# Altium integrated library Resistors.IntLib: 255 symbols (part 3 of 3)
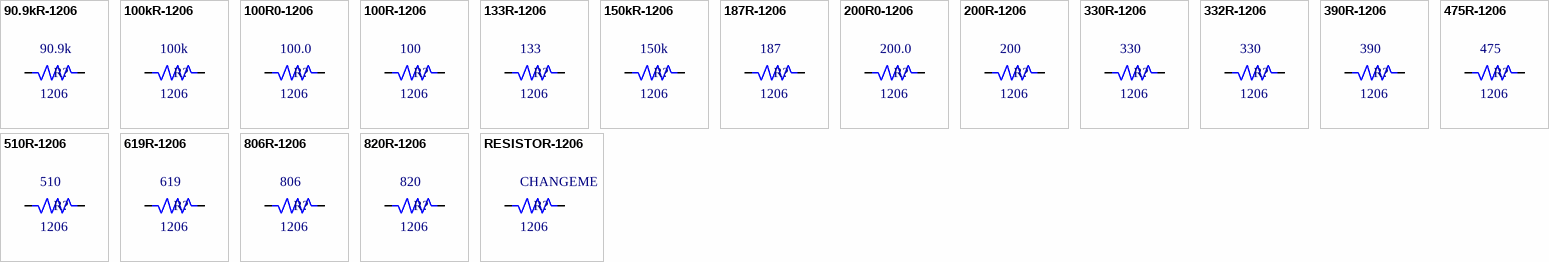
[diagram p12: symbols 90.9kR-1206 to RESISTOR-1206]

## 390R-1206
designator R?  value 390  Package Reference: 1206
390R, 1206 SMT resistor, 1/4W, 5%; Part Number: ERJ-8GEYJ391V; PackageDescription: Chip Resistor 1206; Supplier 1: Newark; Supplier 2: Digi-Key; Supplier 3: Mouser; Supplier Part Number 1: 65T8937; Supplier Part Number 2: P390ECT-ND; Supplier Part Number 3: 667-ERJ-8GEYJ391V
simulation model RESISTOR (Resistor)
signal-integrity model Res
footprint R1206 (Chip Resistor, Body 3.2x1.6mm, IPC Medium Density)
3D model 1206-Res (PCB3D Model)
pins: 1, 2

## 475R-1206
designator R?, comment value 475  Package Reference: 1206  (hidden comment: ERJ-8ENF4750V)
475R, 1206 SMT resistor, 1/4W, 1%; PackageDescription: Chip Resistor 1206; Supplier 1: Newark; Supplier 2: Digi-Key; Supplier 3: Mouser; Supplier Part Number 1: 65T8874; Supplier Part Number 2: P475FCT-ND; Supplier Part Number 3: 667-ERJ-8ENF4750V
simulation model RESISTOR (Resistor)
signal-integrity model Res
footprint R1206 (Chip Resistor, Body 3.2x1.6mm, IPC Medium Density)
3D model 1206-Res (PCB3D Model)
pins: 1, 2

## 510R-1206
designator R?, comment value 510  Package Reference: 1206  (hidden comment: ERJ-8ENF5100V)
510, 1206 SMT resistor, 1/4W, 1%; PackageDescription: Chip Resistor 1206; Supplier 1: Mouser; Supplier 2: Digi-Key; Supplier 3: Newark; Supplier Part Number 1: 667-ERJ-8ENF5100V; Supplier Part Number 2: P510FCT-ND; Supplier Part Number 3: 53W4994
simulation model RESISTOR (Resistor)
signal-integrity model Res
footprint R1206 (Chip Resistor, Body 3.2x1.6mm, IPC Medium Density)
3D model 1206-Res (PCB3D Model)
pins: 1, 2

## 619R-1206
designator R?, comment value 619  Package Reference: 1206  (hidden comment: ERJ-8ENF6190V)
619R, 1206 SMT resistor, 1/4W, 1%; PackageDescription: Chip Resistor 1206; Supplier 1: Digi-Key; Supplier 2: Mouser; Supplier 3: Newark; Supplier Part Number 1: P619FCT-ND; Supplier Part Number 2: 667-ERJ-8ENF6190V; Supplier Part Number 3: 90W3966
simulation model RESISTOR (Resistor)
signal-integrity model Res
footprint R1206 (Chip Resistor, Body 3.2x1.6mm, IPC Medium Density)
3D model 1206-Res (PCB3D Model)
pins: 1, 2

## 806R-1206
designator R?, comment value 806  Package Reference: 1206  (hidden comment: ERJ-8ENF8060V)
806R, 1206 SMT resistor, 1/4W, 1%; PackageDescription: Chip Resistor 1206; Supplier 1: Digi-Key; Supplier 2: Newark; Supplier 3: Mouser; Supplier Part Number 1: P806FCT-ND; Supplier Part Number 2: 90W4023; Supplier Part Number 3: 667-ERJ-8ENF8060V
simulation model RESISTOR (Resistor)
signal-integrity model Res
footprint R1206 (Chip Resistor, Body 3.2x1.6mm, IPC Medium Density)
3D model 1206-Res (PCB3D Model)
pins: 1, 2

## 820R-1206
designator R?, comment value 820  Package Reference: 1206  (hidden comment: ERJ-8GEYJ821V)
820R, 1206 SMT resistor, 1/4W, 5%; PackageDescription: Chip Resistor 1206; Supplier 1: Digi-Key; Supplier 2: Newark; Supplier 3: Mouser; Supplier Part Number 1: P820ECT-ND; Supplier Part Number 2: 65T8963; Supplier Part Number 3: 667-ERJ-8GEYJ821V
simulation model RESISTOR (Resistor)
signal-integrity model Res
footprint R1206 (Chip Resistor, Body 3.2x1.6mm, IPC Medium Density)
3D model 1206-Res (PCB3D Model)
pins: 1, 2

## RESISTOR-1206
designator R?, comment value CHANGEME  Package Reference: 1206  (hidden comment: Generic Resistor, 1206)
Generic, 1206 SMT resistor, 1/4W, x%; PackageDescription: Chip Resistor 1206
simulation model RESISTOR (Resistor)
signal-integrity model Res
footprint R1206 (Chip Resistor, Body 3.2x1.6mm, IPC Medium Density)
3D model 1206-Res (PCB3D Model)
pins: 1, 2


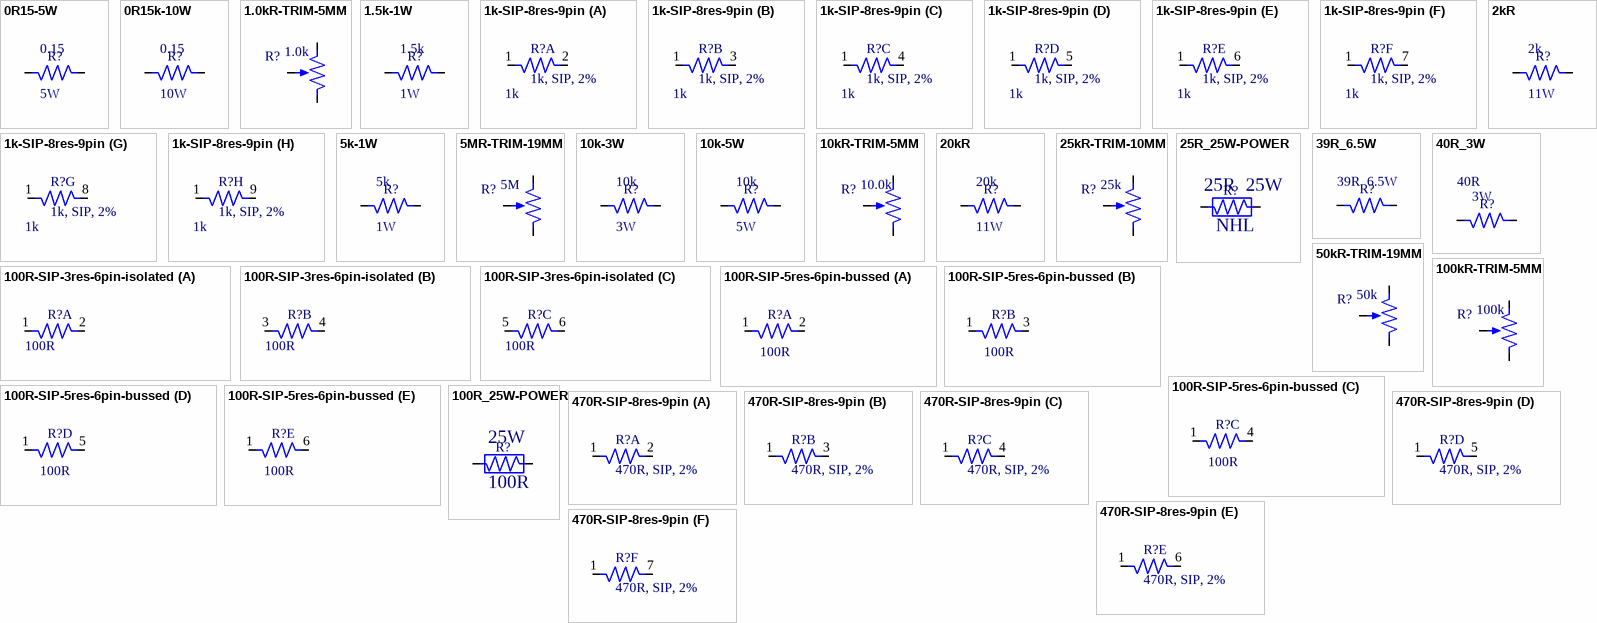
[diagram p7: symbols 0R15-5W to 470R-SIP-8res-9pin]

## 0R15-5W
designator R?, comment value 0.15  Power Rating: 5W  (hidden comment: 15FR150E)
Resistor, 0.15R, Thru-hole resistor, 5W, 5%; Manufacturer: Ohmite; PackageDescription: Resistor, Axial; Part Number: 15FR150E; Type: *; Supplier 1: Mouser; Supplier Part Number 1: 588-15FR150E; Supplier 2: Newark; Supplier Part Number 2: 64K7927; Supplier 3: Allied; Supplier Part Number 3: 70024363; Supplier 4: Digi-Key; Supplier Part Number 4: 15FR150E-ND; Adjustment Type: N/A; Number of Turns: N/A; Package Reference: Thru-Hole; Set Position: N/A
footprint AXIAL-1.3 (Axial Device, Thru-Hole; 2 Leads; 1.2 in Pin Spacing)
simulation model RES (Default semiconductor resistor)
pins: 1, 2

## 0R15k-10W
designator R?, comment value 0.15  Power Rating: 10W  (hidden comment: RS010R1500FE73)
Resistor, 0.15R, Thru-hole resistor, 10W, 1%; Manufacturer: Vishay Dale; PackageDescription: Resistor, Axial; Part Number: RS010R1500FE73; Type: *; Supplier 1: Mouser; Supplier Part Number 1: N/A; Supplier 2: Digi-Key; Supplier Part Number 2: RSD-.15RCT-ND; Adjustment Type: N/A; Number of Turns: N/A; Package Reference: Thru-Hole; Set Position: N/A
footprint AXIAL-1.3 (Axial Device, Thru-Hole; 2 Leads; 1.2 in Pin Spacing)
simulation model RES (Default semiconductor resistor)
pins: 1, 2

## 1.0kR-TRIM-5MM
designator R?, comment value 1.0k  (hidden comment: 3296W-1-102LF)
Trimmer Potentiometer, 1k, 25turn, PCB mount; Manufacturer: Vishay Sfernice; Adjustment Type: Top Adjustment; Number of Turns: 25; Power Rating: 0.5W (1./2W); Set Position: .5; PackageDescription: Rectangular - 0.375" x 0.190" Face x 0.395" H (9.53mm x 4.83mm x 10.03mm); Supplier 1: Mouser; Supplier Part Number 1: 72-T93YB-10K; Supplier 2: Digi-Key; Supplier Part Number 2: T93YB-10K-ND; Supplier 3: Newark; Supplier Part Number 3: 26M4641; Part Number: 3296W-1-102LF; Package Reference: POT-9.7mm-X-5mm
simulation model POT (Trimmer Potentiometer)
footprint POT-9.53MM-X-4.83MM (Bournes Rectangular - 0.375" x 0.190" Face x 0.395" H (9.53mm x 4.83mm x 10.03mm) Potientiometer package)
3D model POT-BOURNES-3296 (PCB3D Model)
pins: 1, 2, 3

## 1.5k-1W
designator R?, comment value 1.5k  Power Rating: 1W  (hidden comment: FMP100JR-52-1K5)
Resistor, 1.5kR, Thru-hole resistor, 1W, 5%; Manufacturer: Yageo; PackageDescription: Resistor, Axial; Part Number: FMP100JR-52-1K5; Type: *; Supplier 1: Digi-Key; Supplier Part Number 1: 1.5KWCT-ND; Supplier 2: Mouser; Supplier Part Number 2: 603-FMP100JR-52-1K5; Adjustment Type: N/A; Number of Turns: N/A; Package Reference: Thru-Hole; Set Position: N/A
footprint AXIAL-0.5 (Axial Device, Thru-Hole; 2 Leads; 0.5 in Pin Spacing)
simulation model RES (Default semiconductor resistor)
pins: 1, 2

## 1k-SIP-8res-9pin
designator R?, comment 1k, SIP, 2%  value 1k
Resistor SIP, 1k, thick film, bussed, 8res, 9pin; Manufacturer: Bourns; Power Rating: 200mW; Supplier 1: Newark; Supplier Part Number 1: 32K9075; Supplier 2: Mouser; Supplier Part Number 2: 652-4309R-1LF-1K; Supplier 3: Digi-Key; Supplier Part Number 3: 4309R-101-102LF-ND; PackageDescription: Through Hole Resistor Network; Type: 4300 Series; Adjustment Type: N/A; Number of Turns: N/A; Set Position: N/A
footprint SIP-9-bussed (8res, 9pin, SIP, bussed)
part A pins: 1 COM, 2
part B pins: 1 COM, 3
part C pins: 1 COM, 4
part D pins: 1 COM, 5
part E pins: 1 COM, 6
part F pins: 1 COM, 7
part G pins: 1 COM, 8
part H pins: 1 COM, 9

## 2kR
designator R?, comment value 2k  Power Rating: 11W  (hidden comment: 2k 11W)
Resistor, 2kR, 90 Series, Thru-hole resistor, 11W, 5%; Part Number: 90J2K0E; Manufacturer: OHMITE; PackageDescription: Resistor, Axial; Type: *; Supplier 1: Allied; Supplier Part Number 1: 70023464; Supplier 2: Mouser; Supplier Part Number 2: 588-90J2K0E; Supplier 3: Newark; Supplier Part Number 3: 14P3775; Adjustment Type: N/A; Number of Turns: N/A; Package Reference: Thru-Hole; Set Position: N/A
footprint 90Series-11W (90 Series Power Resistor 11W, 1080V)
simulation model RES (Default semiconductor resistor)
pins: 1, 2

## 5k-1W
designator R?, comment value 5k  Power Rating: 1W  (hidden comment: ALSR015K000JE12)
Resistor, 5kR, Thru-hole resistor, 1W, 5%; Manufacturer: Vishay Dale; PackageDescription: Resistor, Axial; Part Number: ALSR015K000JE12; Type: *; Supplier 1: Digi-Key; Supplier Part Number 1: ALSR1J-5.0K-ND; Supplier 2: Newark; Supplier Part Number 2: 25Y0457; Adjustment Type: N/A; Number of Turns: N/A; Package Reference: Thru-Hole; Set Position: N/A
footprint AXIAL-0.5 (Axial Device, Thru-Hole; 2 Leads; 0.5 in Pin Spacing)
simulation model RES (Default semiconductor resistor)
pins: 1, 2

## 5MR-TRIM-19MM
designator R?, comment value 5M  (hidden comment: 3006P-1-505LF)
Trimmer Potentiometer, 5M, 15t, rectangular, panel mount, thru-hole; Manufacturer: Bourns; Adjustment Type: Side Adjustment; Number of Turns: 15; Power Rating: 0.5W (1./2W); PackageDescription: Potentiometer, Rectangular - 19.08mml x 4.83mmw x 6.35mmh; Set Position: N/A; Mounting: Panel; Supplier 1: Newark; Supplier Part Number 1: 06X8798; Part Number: 3006P-1-505LF; Package Reference: POT-19mm-X-4.8mm
footprint POT-19MM-X-4.8MM
simulation model RES (Default semiconductor resistor)
pins: 1, 2, 3

## 10k-3W
designator R?, comment value 10k  Power Rating: 3W  (hidden comment: RS02B10K00FE70)
Resistor, 10kR, Thru-hole resistor, 3W, 5%; Manufacturer: Vishay Dale; PackageDescription: Resistor, Axial; Part Number: RS02B10K00FE70; Type: *; Supplier 1: Newark; Supplier Part Number 1: 52P3409; Supplier 2: Digi-Key; Supplier Part Number 2: RSB-10KRCT-ND; Supplier 3: Mouser; Supplier Part Number 3: 71-RS02B10K00FE70; Adjustment Type: N/A; Number of Turns: N/A; Package Reference: Thru-Hole; Set Position: N/A
footprint AXIAL-0.7 (Axial Device, Thru-Hole; 2 Leads; 0.7 in Pin Spacing)
simulation model RES (Default semiconductor resistor)
pins: 1, 2

## 10k-5W
designator R?, comment value 10k  Power Rating: 5W  (hidden comment: RS00510K00FE73)
Resistor, 10kR, Thru-hole resistor, 5W, 5%; Manufacturer: Vishay Dale; PackageDescription: Resistor, Axial; Part Number: RS00510K00FE73; Type: *; Supplier 1: Digi-Key; Supplier Part Number 1: RSC-10KRCT-ND; Supplier 2: Mouser; Supplier Part Number 2: N/A; Supplier 3: Newark; Supplier Part Number 3: 54M3473; Adjustment Type: N/A; Number of Turns: N/A; Package Reference: Thru-Hole; Set Position: N/A
footprint AXIAL-0.7 (Axial Device, Thru-Hole; 2 Leads; 0.7 in Pin Spacing)
simulation model RES (Default semiconductor resistor)
pins: 1, 2

## 10kR-TRIM-5MM
designator R?, comment value 10.0k  (hidden comment: T93YB103KT20)
Trimmer Potentiometer, 1k, 21turn, PCB mount; Manufacturer: Vishay Sfernice; Adjustment Type: Top Adjustment; Number of Turns: 21; Power Rating: 0.5W (1./2W); Set Position: .5; PackageDescription: Potentiometer, Rectangular - 0.382" x 0.197" Face x 0.386" H (9.70mm x 5.00mm x 9.80mm); Part Number: T93YB103KT20; Package Reference: POT-9.7mm-X-5mm; Supplier 1: Allied; Supplier Part Number 1: 70218951; Supplier 2: Digi-Key; Supplier Part Number 2: T93YB-10K-ND; Supplier 3: Newark; Supplier Part Number 3: 26M4641; Supplier 4: TME; Supplier Part Number 4: T93YB10K
simulation model POT (Trimmer Potentiometer)
footprint POT-9.7mm-X-5mm (Potentiometer, Rectangular - 0.382" x 0.197" Face x 0.386" H (9.70mm x 5.00mm x 9.80mm))
3D model POT-BOURNES-3296 (PCB3D Model)
pins: 1, 2, 3

## 20kR
designator R?, comment value 20k  Power Rating: 11W  (hidden comment: 90J20KE)
Resistor, 20kR, 90 Series, Thru-hole resistor, 11W, 5%; Manufacturer: OHMITE; PackageDescription: Resistor, Axial; Part Number: 90J20KE; Type: *; Supplier 1: Newark; Supplier Part Number 1: 65K0135; Supplier 2: Mouser; Supplier Part Number 2: 588-90J20KE; Adjustment Type: N/A; Number of Turns: N/A; Package Reference: Thru-Hole; Set Position: N/A
footprint 90Series-11W (90 Series Power Resistor 11W, 1080V)
simulation model RES (Default semiconductor resistor)
pins: 1, 2

## 25kR-TRIM-10MM
designator R?, comment value 25k  (hidden comment: 3386P-1-253LF)
Trimmer Potentiometer, 25k, 1turn, 0.5W, 10%, PC Pin; Manufacturer: Bourns; Adjustment Type: Top Adjustment; Number of Turns: 1; PackageDescription: Potentiometer, Rectangular; Power Rating: 0.5W; Supplier 1: Mouser; Supplier Part Number 1: 652-3386P-1-253LF; Supplier 2: Digi-Key; Supplier Part Number 2: 3386P-253LF-ND; Supplier 3: Newark; Supplier Part Number 3: 62J2274; Set Position: N/A; Part Number: 3386P-1-253LF; Package Reference: POT-9.5mm-X-9.5mm
footprint POT-9.5mm-X-9.5mm (Potentiometer, Rectangular - 0.375" x 0.375" x 0.190" H (9.53mm x 9.53mm x 4.83mm))
simulation model RES (Potentiometer model)
pins: 1, 2, 3

## 25R_25W-POWER
designator R?, comment value 25R  Power Rating: 25W  Type: NHL  (hidden comment: NHL02506E25R00JE)
25R, NHL Power Thru-hole resistor, 25W, 5%, Dale; Manufacturer: Vishay; PackageDescription: Non-inductive Power Resistor; Part Number: NHL02506E25R00JE; Supplier 1: Newark; Supplier Part Number 1: 64P7421; Supplier 2: Mouser; Supplier Part Number 2: N/A; Adjustment Type: N/A; Number of Turns: N/A; Package Reference: Screw Mount; Set Position: N/A
footprint NHL-25-06E (Resistor, Non-Inductive, 25W)
simulation model RES (Default semiconductor resistor)
pins: 1, 2

## 39R_6.5W
designator R?, comment value 39R  Power Rating: 6.5W  (hidden comment: CW00539R00JE73)
39R, CW Series, Thru-hole resistor, 6.5W, 5%; PackageDescription: Resistor, Axial; Part Number: CW00539R00JE73; Supplier 1: Digi-Key; Supplier Part Number 1: CWD-39RCT-ND; Type: CW; Supplier 2: Newark; Supplier Part Number 2: 73Y7286; Supplier 3: Mouser; Supplier Part Number 3: 71-CW00539R00JE73HE; Adjustment Type: N/A; Number of Turns: N/A; Package Reference: Thru-Hole; Set Position: N/A
footprint AXIAL-1.3 (Axial Device, Thru-Hole; 2 Leads; 1.2 in Pin Spacing)
simulation model RES (Default semiconductor resistor)
pins: 1, 2

## 40R_3W
designator R?, comment value 40R  Power Rating: 3W  (hidden comment: 23J40RE)
40R, UB Series, Thru-hole resistor, 3W, 1%; Manufacturer: Ohmite; PackageDescription: Resistor, Axial; Type: UB; Supplier 1: Digi-Key; Supplier Part Number 1: 696-1038-ND; Part Number: 23J40RE; Supplier 2: Mouser; Supplier Part Number 2: 588-23J40RE; Supplier 3: Newark; Supplier Part Number 3: 64K8217; Adjustment Type: N/A; Number of Turns: N/A; Package Reference: Thru-Hole; Set Position: N/A
footprint AXIAL-0.8 (Axial Device, Thru-Hole; 2 Leads; 0.8 in Pin Spacing)
simulation model RES (Default semiconductor resistor)
pins: 1, 2

## 50kR-TRIM-19MM
designator R?, comment value 50k  (hidden comment: 3006P-1-503LF)
Trimmer Potentiometer, 50k, 15t, rectangular, panel mount, thru-hole; Manufacturer: Bourns; Adjustment Type: Side Adjustment; Number of Turns: 15; Power Rating: 0.5W (1./2W); PackageDescription: Potentiometer, Rectangular - 19.08mml x 4.83mmw x 6.35mmh; Set Position: N/A; Mounting: Panel; Supplier 1: TME; Supplier Part Number 1: 3006P-1-503LF; Supplier 2: Newark; Supplier Part Number 2: 39K1910; Supplier 3: Mouser; Supplier Part Number 3: 652-3006P-1-503-LF; Supplier 4: Digi-Key; Supplier Part Number 4: 3006P-503LF-ND; Part Number: 3006P-1-503LF; Package Reference: POT-19mm-X-4.8mm
footprint POT-19MM-X-4.8MM
simulation model POT (Trimmer Pot Sim)
pins: 1, 2, 3

## 100kR-TRIM-5MM
designator R?, comment value 100k  (hidden comment: 3296W-1-104LF)
Trimmer Potentiometer, 100k, 25turn, PCB mount; Manufacturer: Vishay Sfernice; Adjustment Type: Top Adjustment; Number of Turns: 25; Power Rating: 0.5W (1./2W); Set Position: .5; PackageDescription: Rectangular - 0.375" x 0.190" Face x 0.395" H (9.53mm x 4.83mm x 10.03mm); Part Number: 3296W-1-104LF; Package Reference: POT-9.7mm-X-5mm; Supplier 1: Allied; Supplier Part Number 1: 70153919; Supplier 2: TME; Supplier Part Number 2: 3296W-1-104LF; Supplier 3: Digi-Key; Supplier Part Number 3: 3296W-104LF-ND
simulation model POT (Trimmer Potentiometer)
footprint POT-9.53MM-X-4.83MM (Bournes Rectangular - 0.375" x 0.190" Face x 0.395" H (9.53mm x 4.83mm x 10.03mm) Potientiometer package)
3D model POT-BOURNES-3296 (PCB3D Model)
pins: 1, 2, 3

## 100R-SIP-3res-6pin-isolated
designator R?, comment value 100R  (hidden comment: 4606X-102-101LF)
Resistor SIP, 100R, thick film, isolated, 3res, 6pin; Manufacturer: Bourns; Power Rating: 300mW; PackageDescription: Through Hole Resistor Network; Type: 4600 Series; Supplier 1: Newark; Supplier Part Number 1: 62J2831; Supplier 2: Mouser; Supplier Part Number 2: 652-4606X-2LF-100; Supplier 3: Digi-Key; Supplier Part Number 3: 4606X-2-101LF-ND; Part Number: 4606X-102-101LF; Adjustment Type: N/A; Number of Turns: N/A; Package Reference: 6-SIP; Set Position: N/A
footprint SIP-6 (5res, 6pin, SIP, bussed)
part A pins: 1 COM, 2
part B pins: 3, 4
part C pins: 5, 6

## 100R-SIP-5res-6pin-bussed
designator R?, comment value 100R  (hidden comment: 4606X-101-101LF)
Resistor SIP, 100R, thick film, bussed, 5res, 6pin; Manufacturer: Bourns; Power Rating: 200mW; PackageDescription: Through Hole Resistor Network; Type: 4600 Series; Supplier 1: Newark; Supplier Part Number 1: 62J2818; Supplier 2: Digi-Key; Supplier Part Number 2: 4606X-1-101LF-ND; Part Number: 4606X-101-101LF; Supplier 3: Mouser; Supplier Part Number 3: 652-4606X-1LF-100; Supplier 4: Allied; Supplier Part Number 4: 70154936; Adjustment Type: N/A; Number of Turns: N/A; Set Position: N/A
footprint SIP-6 (5res, 6pin, SIP, bussed)
part A pins: 1 COM, 2
part B pins: 1 COM, 3
part C pins: 1 COM, 4
part D pins: 1 COM, 5
part E pins: 1 COM, 6

## 100R_25W-POWER
designator R?, comment value 100R  Power Rating: 25W  (hidden comment: L100J100E)
100R, NHL Power Thru-hole resistor, 25W, 5%, Ohmite; PackageDescription: Non-inductive Power Resistor; Manufacturer: Ohmite; Part Number: L100J100E; Type: NHL; Supplier 1: Mouser; Supplier Part Number 1: 588-L100J100E; Supplier 2: Allied; Supplier Part Number 2: 70022721; Supplier 3: Digi-Key; Supplier Part Number 3: L100J100E-ND; Adjustment Type: N/A; Number of Turns: N/A; Package Reference: Screw Mount; Set Position: N/A
footprint NHL-25-06E (Resistor, Non-Inductive, 25W)
simulation model RES (Default semiconductor resistor)
pins: 1, 2

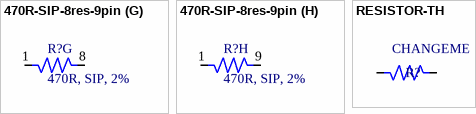
[diagram p8: symbols 470R-SIP-8res-9pin to RESISTOR-TH]

## 470R-SIP-8res-9pin
designator R?, comment 470R, SIP, 2%
Resistor SIP, 470R, thick film, bussed, 8res, 9pin; Manufacturer: Bourns; Power Rating: 200mW; Supplier 1: Mouser; Supplier Part Number 1: 652-4309R-1LF-1K; PackageDescription: Through Hole Resistor Network; Type: 4300 Series; Adjustment Type: N/A; Number of Turns: N/A; Set Position: N/A; Supplier 2: Newark; Supplier Part Number 2: 62J2920; Supplier 3: Digi-Key; Supplier Part Number 3: 4609X-101-471LF-ND; Value: 470R
footprint SIP-9-bussed (8res, 9pin, SIP, bussed)
part A pins: 1 COM, 2
part B pins: 1 COM, 3
part C pins: 1 COM, 4
part D pins: 1 COM, 5
part E pins: 1 COM, 6
part F pins: 1 COM, 7
part G pins: 1 COM, 8
part H pins: 1 COM, 9

## RESISTOR-TH
designator R?, comment value CHANGEME  (hidden comment: Generic Resistor, 2512)
Generic, Through Hole resistor, 3/4W, x%; PackageDescription: Axial-0.x; Power Rating: *; Adjustment Type: N/A; Number of Turns: N/A; Package Reference: TH Axial-0.x; Set Position: N/A
simulation model RESISTOR (Resistor)
signal-integrity model Res
footprint AXIAL-0.3 (Axial Device, Thru-Hole; 2 Leads; 0.3 in Pin Spacing)
pins: 1, 2


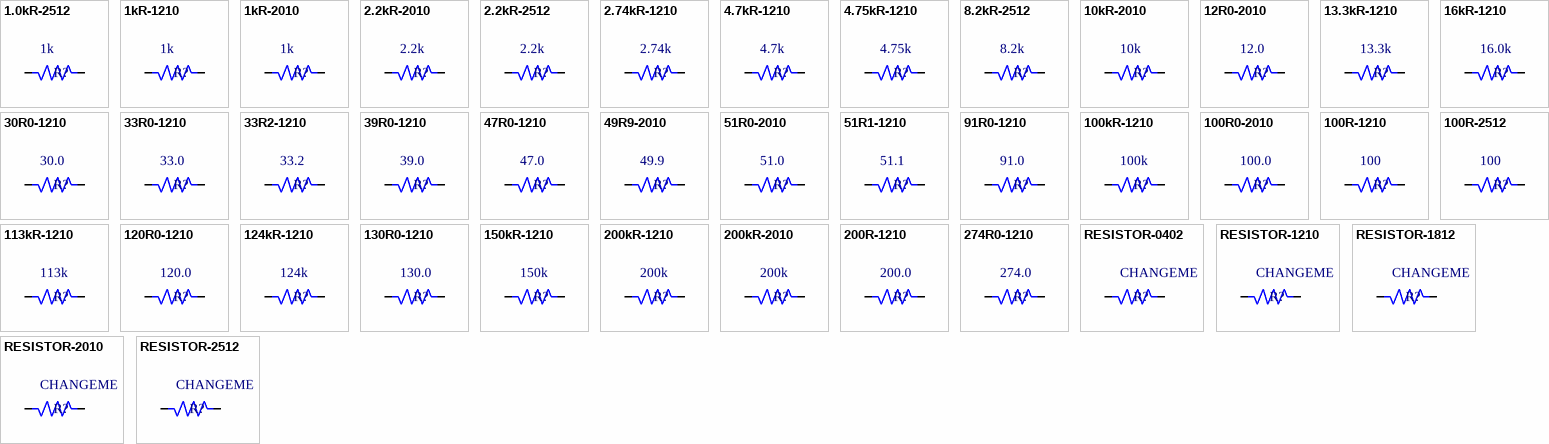
[diagram p9: symbols 1.0kR-2512 to RESISTOR-2512]

## 1.0kR-2512
designator R?, comment value 1k  (hidden comment: 1k, 2512)
1k, 2512 SMT resistor, 1W, 1%; PackageDescription: Chip Resistor 2512; Supplier 1: Newark; Supplier 2: Mouser; Supplier 3: Digi-Key; Supplier Part Number 1: 51W5952; Supplier Part Number 2: 667-ERJ-1TNF1001U; Supplier Part Number 3: PT1.00KAFCT-ND; Package Reference: 2512
simulation model RESISTOR (Resistor)
signal-integrity model Res
footprint R2512 (Chip Resistor, Body 2.54x1.27mm, IPC Medium Density)
3D model 2512-Res (PCB3D Model)
pins: 1, 2

## 1kR-1210
designator R?, comment value 1k  (hidden comment: 1k, 1210)
1k, 1210 SMT resistor, 1/2W, 1%; PackageDescription: Chip Resistor 1210; Supplier 1: Digi-Key; Supplier 2: Newark; Supplier 3: Mouser; Supplier Part Number 1: P1.00KAACT-ND; Supplier Part Number 2: 53W4092; Supplier Part Number 3: 667-ERJ-14NF1001U; Package Reference: 1210
simulation model RESISTOR (Resistor)
signal-integrity model Res
footprint R1210 (Chip Resistor, Body 3.2x2.5mm, IPC Medium Density)
3D model 1210-Res (PCB3D Model)
pins: 1, 2

## 1kR-2010
designator R?, comment value 1k  (hidden comment: 1k, 2010)
1k, 2010 SMT resistor, 1/2W, 5%; PackageDescription: Chip Resistor 2010; Supplier 1: Mouser; Supplier 2: Newark; Supplier 3: Digi-Key; Supplier Part Number 1: 667-ERJ-12ZYJ102U; Supplier Part Number 2: 53W4083; Supplier Part Number 3: P1.0KWCT-ND; Package Reference: 2010
simulation model RESISTOR (Resistor)
signal-integrity model Res
footprint R2010 (Chip Resistor, Body 5.0x2.5mm, IPC Medium Density)
3D model 2010-Res (PCB3D Model)
pins: 1, 2

## 2.2kR-2010
designator R?, comment value 2.2k  (hidden comment: 2.2k, 2010)
2.2k, 2010 SMT resistor, 1/2W, 5%; PackageDescription: Chip Resistor 2010; Supplier 1: Mouser; Supplier 2: Digi-Key; Supplier 3: Newark; Supplier Part Number 1: 667-ERJ-12ZYJ222U; Supplier Part Number 2: P2.2KWCT-ND; Supplier Part Number 3: 53W4088; Package Reference: 2010
simulation model RESISTOR (Resistor)
signal-integrity model Res
footprint R2010 (Chip Resistor, Body 5.0x2.5mm, IPC Medium Density)
3D model 2010-Res (PCB3D Model)
pins: 1, 2

## 2.2kR-2512
designator R?, comment value 2.2k  (hidden comment: 2.2kR, 2512)
2.2kR, 2512 SMT resistor, 2W, 1%; PackageDescription: Chip Resistor 2512; Supplier 1: Digi-Key; Supplier Part Number 1: A116040CT-ND; Supplier 2: Mouser; Supplier Part Number 2: 279-35212K2FT; Package Reference: 2512; Power Rating: 2W
simulation model RESISTOR (Resistor)
signal-integrity model Res
footprint R2512 (Chip Resistor, Body 2.54x1.27mm, IPC Medium Density)
3D model 2512-Res (PCB3D Model)
pins: 1, 2

## 2.74kR-1210
designator R?, comment value 2.74k  (hidden comment: 2.74k, 1210)
2.74k, 1210 SMT resistor, 1/2W, 1%; PackageDescription: Chip Resistor 1210; Supplier 1: Digi-Key; Supplier 2: Mouser; Supplier Part Number 1: P2.74KAACT-ND; Supplier Part Number 2: 667-ERJ-14NF2741U; Package Reference: 1210
simulation model RESISTOR (Resistor)
signal-integrity model Res
footprint R1210 (Chip Resistor, Body 3.2x2.5mm, IPC Medium Density)
3D model 1210-Res (PCB3D Model)
pins: 1, 2

## 4.7kR-1210
designator R?, comment value 4.7k  (hidden comment: 4.7k, 1210)
4.7k, 1210 SMT resistor, 1/2W, 1%; PackageDescription: Chip Resistor 1210; Supplier 1: Digi-Key; Supplier 2: Newark; Supplier 3: Mouser; Supplier Part Number 1: 541-4.70KAACT-ND; Supplier Part Number 2: 53K3253; Supplier Part Number 3: 71-CRCW1210-4.7K-E3; Package Reference: 1210
simulation model RESISTOR (Resistor)
signal-integrity model Res
footprint R1210 (Chip Resistor, Body 3.2x2.5mm, IPC Medium Density)
3D model 1210-Res (PCB3D Model)
pins: 1, 2

## 4.75kR-1210
designator R?, comment value 4.75k  (hidden comment: 4.75k, 1210)
4.75k, 1210 SMT resistor, 1/2W, 1%; PackageDescription: Chip Resistor 1210; Supplier 1: Digi-Key; Supplier 2: Mouser; Supplier Part Number 1: P4.75KAACT-ND; Supplier Part Number 2: 667-ERJ-14NF4751U; Package Reference: 1210
simulation model RESISTOR (Resistor)
signal-integrity model Res
footprint R1210 (Chip Resistor, Body 3.2x2.5mm, IPC Medium Density)
3D model 1210-Res (PCB3D Model)
pins: 1, 2

## 8.2kR-2512
designator R?  value 8.2k  (hidden comment: 8.2kR-2512)
8.2k, 2512 SMT resistor, 1W, 1%; Temperature Coefficient: 100ppm; PackageDescription: Chip Resistor 2512; Supplier 1: Digi-Key; Supplier Part Number 1: PT8.20KAFCT-ND; Supplier 2: Mouser; Supplier Part Number 2: 667-ERJ-1TNF8201U; Package Reference: 2512
simulation model RESISTOR (Resistor)
signal-integrity model Res
footprint R2512 (Chip Resistor, Body 2.54x1.27mm, IPC Medium Density)
3D model 2512-Res (PCB3D Model)
pins: 1, 2

## 10kR-2010
designator R?, comment value 10k  (hidden comment: 10k. 2010)
10k, 2010 SMT resistor, 1/2W, 1%; PackageDescription: Chip Resistor 2010; Supplier 1: Mouser; Supplier 2: Digi-Key; Supplier Part Number 1: 667-ERJ-12SF1002U; Supplier Part Number 2: P10.0KACCT-ND; Package Reference: 2010
simulation model RESISTOR (Resistor)
signal-integrity model Res
footprint R2010 (Chip Resistor, Body 5.0x2.5mm, IPC Medium Density)
3D model 2010-Res (PCB3D Model)
pins: 1, 2

## 12R0-2010
designator R?, comment value 12.0  (hidden comment: 12, 2010)
12, 2010 SMT resistor, 1/2W, 1%; PackageDescription: Chip Resistor 2010; Supplier 1: Digi-Key; Supplier 2: Digi-Key; Supplier Part Number 1: ERJ-S1DF12R0U-ND; Supplier Part Number 2: RMCF2010FT12R0-ND; Package Reference: 2010
simulation model RESISTOR (Resistor)
signal-integrity model Res
footprint R2010 (Chip Resistor, Body 5.0x2.5mm, IPC Medium Density)
3D model 2010-Res (PCB3D Model)
pins: 1, 2

## 13.3kR-1210
designator R?, comment value 13.3k  (hidden comment: 13.3k, 1210)
13.3k, 1210 SMT resistor, 1/2W, 1%; PackageDescription: Chip Resistor 1210; Supplier 1: Digi-Key; Supplier 2: Mouser; Supplier Part Number 1: P13.0KAACT-ND; Supplier Part Number 2: 667-ERJ-14NF1302U; Package Reference: 1210
simulation model RESISTOR (Resistor)
signal-integrity model Res
footprint R1210 (Chip Resistor, Body 3.2x2.5mm, IPC Medium Density)
3D model 1210-Res (PCB3D Model)
pins: 1, 2

## 16kR-1210
designator R?, comment value 16.0k  (hidden comment: 16.0k, 1210)
16.0k, 1210 SMT resistor, 1/2W, 1%; PackageDescription: Chip Resistor 1210; Supplier 1: Arrow; Supplier 2: Mouser; Supplier Part Number 1: ERJ-14NF1602U; Supplier Part Number 2: 667-ERJ-14NF1602U; Package Reference: 1210
simulation model RESISTOR (Resistor)
signal-integrity model Res
footprint R1210 (Chip Resistor, Body 3.2x2.5mm, IPC Medium Density)
3D model 1210-Res (PCB3D Model)
pins: 1, 2

## 30R0-1210
designator R?, comment value 30.0  (hidden comment: 30R, 1210)
30R, 1210 SMT resistor, 1/2W, 1%; PackageDescription: Chip Resistor 1210; Supplier 1: Digi-Key; Supplier 2: Mouser; Supplier Part Number 1: P30AATR-ND; Supplier Part Number 2: 667-ERJ-14NF30R0U; Package Reference: 1210
simulation model RESISTOR (Resistor)
signal-integrity model Res
footprint R1210 (Chip Resistor, Body 3.2x2.5mm, IPC Medium Density)
3D model 1210-Res (PCB3D Model)
pins: 1, 2

## 33R0-1210
designator R?, comment value 33.0  (hidden comment: 33.0, 1210)
33.0, 1210 SMT resistor, 1/2W, 1%; PackageDescription: Chip Resistor 1210; Supplier 1: Digi-Key; Supplier 2: Mouser; Supplier 3: Digi-Key; Supplier Part Number 1: RHM1125DKR-ND; Supplier Part Number 2: 667-ERJ-14NF33R0U; Supplier Part Number 3: P33AATR-ND; Package Reference: 1210
simulation model RESISTOR (Resistor)
signal-integrity model Res
footprint R1210 (Chip Resistor, Body 3.2x2.5mm, IPC Medium Density)
3D model 1210-Res (PCB3D Model)
pins: 1, 2

## 33R2-1210
designator R?, comment value 33.2  (hidden comment: 33.2, 1210)
33.2, 1210 SMT resistor, 1/2W, 1%; PackageDescription: Chip Resistor 1210; Supplier 1: Digi-Key; Supplier 2: Mouser; Supplier Part Number 1: P33.2AACT-ND; Supplier Part Number 2: 667-ERJ-14NF33R2U; Package Reference: 1210
simulation model RESISTOR (Resistor)
signal-integrity model Res
footprint R1210 (Chip Resistor, Body 3.2x2.5mm, IPC Medium Density)
3D model 1210-Res (PCB3D Model)
pins: 1, 2

## 39R0-1210
designator R?, comment value 39.0  (hidden comment: 39.0, 1210)
39.0, 1210 SMT resistor, 1/2W, 1%; PackageDescription: Chip Resistor 1210; Supplier 1: Digi-Key; Supplier 2: Digi-Key; Supplier 3: Mouser; Supplier Part Number 1: RHM1137CT-ND; Supplier Part Number 2: 541-39DTR-ND; Supplier Part Number 3: 71-CRCW121039R0FKEAH; Package Reference: 1210
simulation model RESISTOR (Resistor)
signal-integrity model Res
footprint R1210 (Chip Resistor, Body 3.2x2.5mm, IPC Medium Density)
3D model 1210-Res (PCB3D Model)
pins: 1, 2

## 47R0-1210
designator R?, comment value 47.0  (hidden comment: 47.0, 1210)
47.0, 1210 SMT resistor, 1/2W, 1%; PackageDescription: Chip Resistor 1210; Supplier 1: Digi-Key; Supplier 2: Newark; Supplier Part Number 1: 541-47.0AACT-ND; Supplier Part Number 2: 53K3305; Package Reference: 1210
simulation model RESISTOR (Resistor)
signal-integrity model Res
footprint R1210 (Chip Resistor, Body 3.2x2.5mm, IPC Medium Density)
3D model 1210-Res (PCB3D Model)
pins: 1, 2

## 49R9-2010
designator R?, comment value 49.9  (hidden comment: 49.9, 2010)
49.9, 2010 SMT resistor, 1/2W, 1%; PackageDescription: Chip Resistor 2010; Supplier 1: Mouser; Supplier 2: Digi-Key; Supplier Part Number 1: N/A; Supplier Part Number 2: RHM49.9BFCT-ND; Package Reference: 2010
simulation model RESISTOR (Resistor)
signal-integrity model Res
footprint R2010 (Chip Resistor, Body 5.0x2.5mm, IPC Medium Density)
3D model 2010-Res (PCB3D Model)
pins: 1, 2

## 51R0-2010
designator R?, comment value 51.0  (hidden comment: 51, 2010)
51, 2010 SMT resistor, 1/2W, 5%; PackageDescription: Chip Resistor 2010; Supplier 1: Mouser; Supplier 2: Digi-Key; Supplier Part Number 1: 667-ERJ-12ZYJ510U; Supplier Part Number 2: P51WCT-ND; Package Reference: 2010
simulation model RESISTOR (Resistor)
signal-integrity model Res
footprint R2010 (Chip Resistor, Body 5.0x2.5mm, IPC Medium Density)
3D model 2010-Res (PCB3D Model)
pins: 1, 2

## 51R1-1210
designator R?, comment value 51.1  (hidden comment: 51.1, 1210)
51.1, 1210 SMT resistor, 1/2W, 1%; PackageDescription: Chip Resistor 1210; Supplier 1: Digi-Key; Supplier 2: Mouser; Supplier Part Number 1: P51.1AACT-ND; Supplier Part Number 2: 667-ERJ-14NF51R1U; Package Reference: 1210
simulation model RESISTOR (Resistor)
signal-integrity model Res
footprint R1210 (Chip Resistor, Body 3.2x2.5mm, IPC Medium Density)
3D model 1210-Res (PCB3D Model)
pins: 1, 2

## 91R0-1210
designator R?, comment value 91.0  (hidden comment: 91, 1210)
91, 1210 SMT resistor, 1/2W, 1%; PackageDescription: Chip Resistor 1210; Supplier 1: Digi-Key; Supplier 2: Digi-Key; Supplier 3: Mouser; Supplier Part Number 1: ESR25JZPF91R0-ND; Supplier Part Number 2: CRCW121091R0FKEA-ND; Supplier Part Number 3: 71-CRCW1210-91-E3; Package Reference: 1210
simulation model RESISTOR (Resistor)
signal-integrity model Res
footprint R1210 (Chip Resistor, Body 3.2x2.5mm, IPC Medium Density)
3D model 1210-Res (PCB3D Model)
pins: 1, 2

## 100kR-1210
designator R?, comment value 100k  (hidden comment: 100k, 1210)
100k, 1210 SMT resistor, 1/2W, 1%; PackageDescription: Chip Resistor 1210; Supplier 1: Digi-Key; Supplier 2: Mouser; Supplier 3: Newark; Supplier Part Number 1: P100KAACT-ND; Supplier Part Number 2: 667-ERJ-14NF1003U; Supplier Part Number 3: 53W4094; Package Reference: 1210
simulation model RESISTOR (Resistor)
signal-integrity model Res
footprint R1210 (Chip Resistor, Body 3.2x2.5mm, IPC Medium Density)
3D model 1210-Res (PCB3D Model)
pins: 1, 2

## 100R0-2010
designator R?, comment value 100.0  (hidden comment: 100.0, 2010)
100.0, 2010 SMT resistor, 1/2W, 1%; PackageDescription: Chip Resistor 2010; Supplier 1: Newark; Supplier 2: Mouser; Supplier 3: Digi-Key; Supplier Part Number 1: 53W4078; Supplier Part Number 2: 667-ERJ-12SF1000U; Supplier Part Number 3: P100ACCT-ND; Package Reference: 2010
simulation model RESISTOR (Resistor)
signal-integrity model Res
footprint R2010 (Chip Resistor, Body 5.0x2.5mm, IPC Medium Density)
3D model 2010-Res (PCB3D Model)
pins: 1, 2

## 100R-1210
designator R?, comment value 100  (hidden comment: 100, 1210)
100, 1210 SMT resistor, 1/2W, 5%; PackageDescription: Chip Resistor 1210; Supplier 1: Digi-Key; Supplier 2: Newark; Supplier 3: Mouser; Supplier Part Number 1: P100VCT-ND; Supplier Part Number 2: 53W4102; Supplier Part Number 3: 667-ERJ-14YJ101U; Package Reference: 1210
simulation model RESISTOR (Resistor)
signal-integrity model Res
footprint R1210 (Chip Resistor, Body 3.2x2.5mm, IPC Medium Density)
3D model 1210-Res (PCB3D Model)
pins: 1, 2

## 100R-2512
designator R?, comment value 100  (hidden comment: 100R, 2512)
100R, 2512 SMT resistor, 1W, 1%; PackageDescription: Chip Resistor 2512; Supplier 1: Newark; Supplier Part Number 1: 51W5951; Supplier 2: Digi-Key; Supplier Part Number 2: PT100AFCT-ND; Supplier 3: Mouser; Supplier Part Number 3: 667-ERJ-1TNF1000U; Package Reference: 2512
simulation model RESISTOR (Resistor)
signal-integrity model Res
footprint R2512 (Chip Resistor, Body 2.54x1.27mm, IPC Medium Density)
3D model 2512-Res (PCB3D Model)
pins: 1, 2

## 113kR-1210
designator R?, comment value 113k  (hidden comment: 113k, 1210)
113k, 1210 SMT resistor, 1/2W, 1%; PackageDescription: Chip Resistor 1210; Supplier 1: Digi-Key; Supplier 2: Mouser; Supplier 3: Newark; Supplier Part Number 1: P100KAACT-ND; Supplier Part Number 2: 667-ERJ-14NF1003U; Supplier Part Number 3: 53W4094; Package Reference: 1210
simulation model RESISTOR (Resistor)
signal-integrity model Res
footprint R1210 (Chip Resistor, Body 3.2x2.5mm, IPC Medium Density)
3D model 1210-Res (PCB3D Model)
pins: 1, 2

## 120R0-1210
designator R?, comment value 120.0  (hidden comment: 120, 1210)
120, 1210 SMT resistor, 1/2W, 1%; PackageDescription: Chip Resistor 1210; Supplier 1: Newark; Supplier 2: Digi-Key; Supplier 3: Mouser; Supplier Part Number 1: 53K2833; Supplier Part Number 2: CRCW1210120RFKTA-ND; Supplier Part Number 3: 71-CRCW1210F-120-E3; Package Reference: 1210
simulation model RESISTOR (Resistor)
signal-integrity model Res
footprint R1210 (Chip Resistor, Body 3.2x2.5mm, IPC Medium Density)
3D model 1210-Res (PCB3D Model)
pins: 1, 2

## 124kR-1210
designator R?, comment value 124k  (hidden comment: 124k, 1210)
124k, 1210 SMT resistor, 1/2W, 1%; PackageDescription: Chip Resistor 1210; Supplier 1: Digi-Key; Supplier 2: Mouser; Supplier Part Number 1: P124KAACT-ND; Supplier Part Number 2: 667-ERJ-14NF1243U; Package Reference: 1210
simulation model RESISTOR (Resistor)
signal-integrity model Res
footprint R1210 (Chip Resistor, Body 3.2x2.5mm, IPC Medium Density)
3D model 1210-Res (PCB3D Model)
pins: 1, 2

## 130R0-1210
designator R?, comment value 130.0  (hidden comment: 130.0, 1210)
130.0, 1210 SMT resistor, 1/2W, 1%; PackageDescription: Chip Resistor 1210; Supplier 1: Mouser; Supplier 2: Digi-Key; Supplier Part Number 1: 667-ERJ-14NF1300U; Supplier Part Number 2: P130AACT-ND; Package Reference: 1210
simulation model RESISTOR (Resistor)
signal-integrity model Res
footprint R1210 (Chip Resistor, Body 3.2x2.5mm, IPC Medium Density)
3D model 1210-Res (PCB3D Model)
pins: 1, 2

## 150kR-1210
designator R?, comment value 150k  (hidden comment: 150k, 1210)
150k, 1210 SMT resistor, 1/2W, 1%; PackageDescription: Chip Resistor 1210; Supplier 1: Digi-Key; Supplier 2: Mouser; Supplier Part Number 1: P150KAACT-ND; Supplier Part Number 2: 667-ERJ-14NF1503U; Package Reference: 1210
simulation model RESISTOR (Resistor)
signal-integrity model Res
footprint R1210 (Chip Resistor, Body 3.2x2.5mm, IPC Medium Density)
3D model 1210-Res (PCB3D Model)
pins: 1, 2

## 200kR-1210
designator R?, comment value 200k  (hidden comment: 200k, 1210)
200k, 1210 SMT resistor, 1/2W, 1%; PackageDescription: Chip Resistor 1210; Supplier 1: Digi-Key; Supplier 2: Mouser; Supplier Part Number 1: P200KAACT-ND; Supplier Part Number 2: 667-ERJ-14NF2003U; Package Reference: 1210
simulation model RESISTOR (Resistor)
signal-integrity model Res
footprint R1210 (Chip Resistor, Body 3.2x2.5mm, IPC Medium Density)
3D model 1210-Res (PCB3D Model)
pins: 1, 2

## 200kR-2010
designator R?, comment value 200k  (hidden comment: 200k, 2010)
200k, 2010 SMT resistor, 1/2W, 1%; PackageDescription: Chip Resistor 2010; Supplier 1: Newark; Supplier 2: Mouser; Supplier 3: Digi-Key; Supplier Part Number 1: 43C5587; Supplier Part Number 2: 71-CRCW2010-200K-E3; Supplier Part Number 3: CRCW2010200KFKEFHPTR-ND; Package Reference: 2010
simulation model RESISTOR (Resistor)
signal-integrity model Res
footprint R2010 (Chip Resistor, Body 5.0x2.5mm, IPC Medium Density)
3D model 2010-Res (PCB3D Model)
pins: 1, 2

## 200R-1210
designator R?, comment value 200.0  (hidden comment: 200.0, 1210)
200.0, 1210 SMT resistor, 1/2W, 1%; PackageDescription: Chip Resistor 1210; Supplier 1: Mouser; Supplier 2: Newark; Supplier 3: Digi-Key; Supplier Part Number 1: 667-ERJ-14NF2000U; Supplier Part Number 2: 53W4097; Supplier Part Number 3: P200AACT-ND; Package Reference: 1210
simulation model RESISTOR (Resistor)
signal-integrity model Res
footprint R1210 (Chip Resistor, Body 3.2x2.5mm, IPC Medium Density)
3D model 1210-Res (PCB3D Model)
pins: 1, 2

## 274R0-1210
designator R?, comment value 274.0  (hidden comment: 274.0, 1210)
274.0, 1210 SMT resistor, 1/2W, 1%; PackageDescription: Chip Resistor 1210; Supplier 1: Mouser; Supplier 2: Digi-Key; Supplier Part Number 1: 667-ERJ-14NF2740U; Supplier Part Number 2: P274AACT-ND; Package Reference: 1210
simulation model RESISTOR (Resistor)
signal-integrity model Res
footprint R1210 (Chip Resistor, Body 3.2x2.5mm, IPC Medium Density)
3D model 1210-Res (PCB3D Model)
pins: 1, 2

## RESISTOR-0402
designator R?, comment value CHANGEME  (hidden comment: Generic Resistor, 0402)
Generic, 1812 SMT resistor, 1/16W, x%; PackageDescription: Chip Resistor 1812; Package Reference: 1812
simulation model RESISTOR (Resistor)
signal-integrity model Res
footprint R0402 (Chip Resistor, Body 1.0x0.5mm, IPC Medium Density)
3D model 0402-Res (PCB3D Model)
pins: 1, 2

## RESISTOR-1210
designator R?, comment value CHANGEME  (hidden comment: Generic Resistor, 1210)
Generic, 1210 SMT resistor, 1/2W, x%; PackageDescription: Chip Resistor 1210; Package Reference: 1210
simulation model RESISTOR (Resistor)
signal-integrity model Res
footprint R1210 (Chip Resistor, Body 3.2x2.5mm, IPC Medium Density)
3D model 1210-Res (PCB3D Model)
pins: 1, 2

## RESISTOR-1812
designator R?, comment value CHANGEME  (hidden comment: Generic Resistor, 1812)
Generic, 1812 SMT resistor, 1/2W, x%; PackageDescription: Chip Resistor 1812; Package Reference: 1812
simulation model RESISTOR (Resistor)
signal-integrity model Res
footprint R1812 (Chip Resistor, Body 4.5x3.2mm, IPC Medium Density)
3D model 1812-Res (PCB3D Model)
pins: 1, 2

## RESISTOR-2010
designator R?, comment value CHANGEME  (hidden comment: Generic Resistor, 2010)
Generic, 2010 SMT resistor, 1/2W, x%; PackageDescription: Chip Resistor 2010; Package Reference: 2010
simulation model RESISTOR (Resistor)
signal-integrity model Res
footprint R2010 (Chip Resistor, Body 5.0x2.5mm, IPC Medium Density)
3D model 2010-Res (PCB3D Model)
pins: 1, 2

## RESISTOR-2512
designator R?, comment value CHANGEME  (hidden comment: Generic Resistor, 2512)
Generic, 2512 SMT resistor, 1W, x%; PackageDescription: Chip Resistor 2512; Package Reference: 2512
simulation model RESISTOR (Resistor)
signal-integrity model Res
footprint R2512 (Chip Resistor, Body 2.54x1.27mm, IPC Medium Density)
3D model 2512-Res (PCB3D Model)
pins: 1, 2


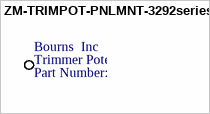
[diagram p10: symbol ZM-TRIMPOT-PNLMNT-3292series]

## ZM-TRIMPOT-PNLMNT-3292series
designator ZM?, comment Manufacturer: Bourns  Inc  (hidden comment: H-115P)  (mechanical)
Trimmer Potentiometer Panel Mount Assembly Hardware, for 3292 series; Material: Aluminum; Type: Panel Mount; Supplier 1: Digi-Key; Supplier Part Number 1: H-115P-ND; Supplier 2: Newark; Supplier Part Number 2: 97C9031; Supplier 3: TME; Supplier Part Number 3: H-115P; Part Number: H-115P; Desc: Trimmer Potentiometer Panel Mount Assembly Hardware, for 3292 series